# Altium schematic symbol library TLV9062IDR.SchLib: 1 symbol
Pins are listed as number, name and electrical type; pins without a type are passive.

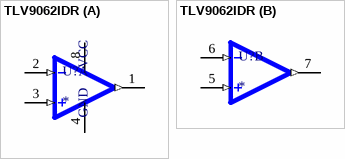
[diagram p0: symbol TLV9062IDR]

## TLV9062IDR
designator U?
Dual, 5.5-V, 10-MHz operational amplifier; MF: Texas Instruments; MP: TLV9062IDR; SnapEDA_Link: https://www.snapeda.com/parts/TLV9062IDR/Texas+Instruments/view-part/?ref=snap; Package: SOIC-8 Texas Instruments; Value: *; Check_prices: https://www.snapeda.com/parts/TLV9062IDR/Texas+Instruments/view-part/?ref=eda
footprint SOIC127P599X175-8N
part A pins: 1 1OUT (out), 2 1IN- (in), 3 1IN+ (in), 4 V- (power), 8 V+ (power)
part B pins: 5 2IN+ (in), 6 2IN- (in), 7 2OUT (out)
part A text: VCC; GND